# Altium schematic symbol library Components_2.SchLib: 22 symbols
Pins are listed as number, name and electrical type; pins without a type are passive.

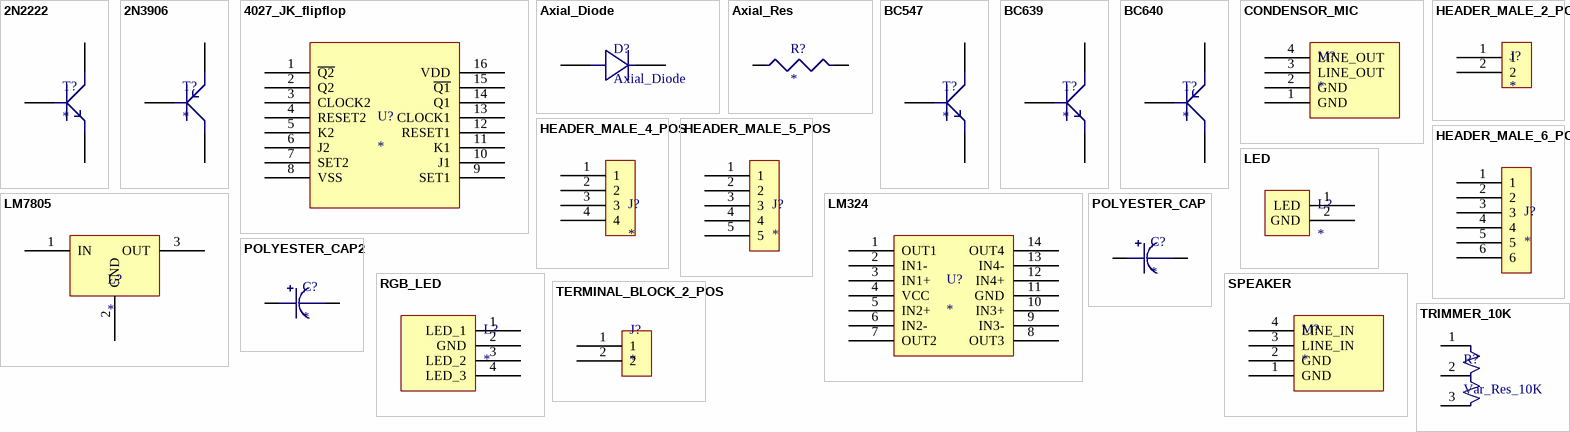
[diagram p0: symbols 2N2222 to TRIMMER_10K]

## 2N2222
designator T?
footprint 2N2222
pins: 1, 2, 3

## 2N3906
designator T?
footprint 2N3906
pins: 1, 2, 3

## 4027_JK_flipflop
designator U?
footprint 4027_JK_flipflop
pins: 1 ~{Q2}, 2 Q2, 3 CLOCK2, 4 RESET2, 5 K2, 6 J2, 7 SET2, 8 VSS, 9 SET1, 10 J1, 11 K1, 12 RESET1, 13 CLOCK1, 14 Q1, 15 ~{Q1}, 16 VDD

## Axial_Diode
designator D?
footprint DO41_Diode
pins: A, C

## Axial_Res
designator R?
footprint Axial_Res
pins: 1, 2

## BC547
designator T?
footprint BC547
pins: 1, 2, 3

## BC639
designator T?
footprint BC639
pins: 1, 2, 3

## BC640
designator T?
footprint BC640
pins: 1, 2, 3

## CONDENSOR_MIC
designator M?
footprint CONDENSOR_MIC
pins: 1 GND, 2 GND, 3 LINE_OUT, 4 LINE_OUT

## HEADER_MALE_2_POS
designator J?
footprint HEADER_MALE_2_POS
pins: 1, 2

## HEADER_MALE_4_POS
designator J?
footprint HEADER_MALE_4_POS
pins: 1, 2, 3, 4

## HEADER_MALE_5_POS
designator J?
footprint HEADER_MALE_5_POS
pins: 1, 2, 3, 4, 5

## HEADER_MALE_6_POS
designator J?
footprint HEADER_MALE_6_POS
pins: 1, 2, 3, 4, 5, 6

## LED
designator L?
footprint LED_3mm
pins: 1 LED, 2 GND

## LM324
designator U?
footprint LM324
pins: 1 OUT1, 2 IN1-, 3 IN1+, 4 VCC, 5 IN2+, 6 IN2-, 7 OUT2, 8 OUT3, 9 IN3-, 10 IN3+, 11 GND, 12 IN4+, 13 IN4-, 14 OUT4

## LM7805
designator L?
footprint LM7805
pins: 1 IN, 2 GND, 3 OUT

## POLYESTER_CAP
designator C?
footprint POLYESTER_CAP
pins: 1, 2

## POLYESTER_CAP2
designator C?
footprint POLYESTER_CAP2
pins: 1, 2

## RGB_LED
designator L?
footprint RGB_LED_5mm
pins: 1 LED_1, 2 GND, 3 LED_2, 4 LED_3

## SPEAKER
designator M?
footprint SPEAKER
pins: 1 GND, 2 GND, 3 LINE_IN, 4 LINE_IN

## TERMINAL_BLOCK_2_POS
designator J?
footprint TERMINAL_BLOCK_2_POS
pins: 1, 2

## TRIMMER_10K
designator R?, comment Var_Res_10K
Res Cermet Trimmer 10K Ohm 10% 0.5W 25(Elec)Turn (17.27 X 6.1 X 11.68mm) Pin Panel Mount/Through Hole Tube; Manufacturer: Bourns; Manufacturer Part Number: 3292W-1-103MLF; Resistance Value: 10 KOhm; Number of Turns: 25(Elec) Turns; Power Rating: 1/2 W; Rad Hard: No; Supplier 1: Mouser; Stock 1: 100; Pricing 1: 1=23.15, 10=21.3, 50=15.75, 100=14.53, 1000=13.16, 10000=13.16 (USD); Packaging: Rail / Tube; Type: Trimmer; Tolerance: 10 %; Mounting: Panel Mount/Through Hole; Technology: Cermet; Operating Temperature: -65 to 150 °C; ComponentLink1URL: http://www.bourns.com/docs/Product-Datasheets/3292.pdf?src-supplier=Digi-Key; ComponentLink1Description: http://www.bourns.com/docs/Product-Datasheets/3292.pdf?src-supplier=Digi-Key; ComponentLink2URL: http://www.bourns.com/data/global/pdfs/3292.pdf?src-supplier=Avnet; ComponentLink2Description: http://www.bourns.com/data/global/pdfs/3292.pdf?src-supplier=Avnet; Supplier Part Number 1: 652-3292W-1-103MLF
footprint TRIMMER_10K
pins: 1, 2, 3